# Altium schematic symbol library 0402 Resistor.SchLib: 1 symbol
Pins are listed as number, name and electrical type; pins without a type are passive.

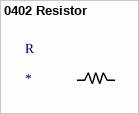
[diagram p0: symbol 0402 Resistor]

## 0402 Resistor
designator R
footprint 0402 Resistor
pins: 1, 2